# Altium schematic symbol library BH-25C-1.SchLib: 1 symbol
Pins are listed as number, name and electrical type; pins without a type are passive.

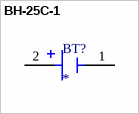
[diagram p0: symbol BH-25C-1]

## BH-25C-1
designator BT?
Battery holder, coin, 20MM 1 CEL PC PIN | Adam Tech BH-25C-1; SnapEDA_Link: https://www.snapeda.com/parts/BH-25C-1/Adam+Tech/view-part/?ref=snap; Package: None; Value: *; MF: Adam Tech; MP: BH-25C-1; Check_prices: https://www.snapeda.com/parts/BH-25C-1/Adam+Tech/view-part/?ref=eda
footprint BAT_BH-25C-1
pins: 1 N, 2 P